# Altium footprint library TL431_SOT23-3.PcbLib: 4 footprints
Each footprint in its own frame and in the unit in brackets; x right, y up, seen from the top. Pads: shape width x height; smd on the part's side, far side on the other; paste and mask are expansions set on the pad; w line width, h text height; cw(c..) or ccw(c..) is an arc to the next point about the centre after c.
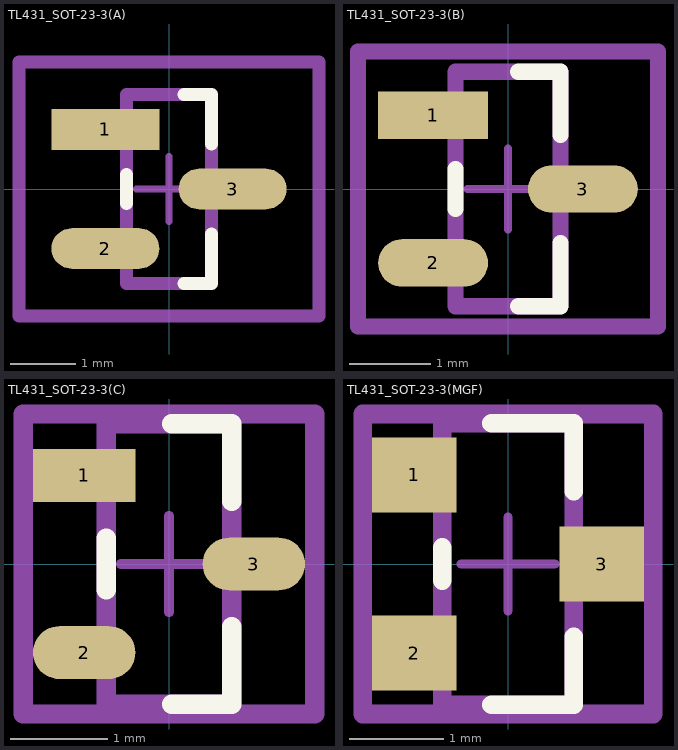
[diagram p0: the footprints below, top view; thin cyan lines are the x and y axes]

## TL431_SOT-23-3(A) [mm]
pads (3):
  rect 1.659x0.627 smd paste+0 mask+0: 1(-0.977,0.915)
  rrect100% 1.659x0.627 smd paste+0 mask+0: 2(-0.977,-0.915) 3(0.977,0)
Top Overlay:
  lines w0.2: -0.65,-0.227 -0.65,0.227 ; 0.228,-1.45 0.65,-1.45 0.65,-0.688 ; 0.228,1.45 0.65,1.45 0.65,0.688
Top 3D Body:
  lines w0.2: -0.65,-1.45 -0.65,1.45 0.65,1.45 0.65,-1.45 -0.65,-1.45
Top Assembly:
  lines w0.2: -2.306,-1.95 -2.306,1.95 2.306,1.95 2.306,-1.95 -2.306,-1.95
  text ".Designator" at 0,-0.001 h1
Top Component Center:
  lines w0.1: -0.5,0 0.5,0 ; 0,-0.5 0,0.5
Top Courtyard:
  lines w0.2: -2.306,-1.95 -2.306,1.95 2.306,1.95 2.306,-1.95 -2.306,-1.95
3D body "IC_DIODES_INC_TL431ASA-7_eec.STEP": height 0.25, standoff 0, extent -2.306,-1.95 2.306,1.95

## TL431_SOT-23-3(B) [mm]
pads (3):
  rect 1.359x0.587 smd paste+0 mask+0: 1(-0.927,0.915)
  rrect100% 1.359x0.587 smd paste+0 mask+0: 2(-0.927,-0.915) 3(0.927,0)
Top Overlay:
  lines w0.2: -0.65,-0.247 -0.65,0.247 ; 0.128,-1.45 0.65,-1.45 0.65,-0.668 ; 0.128,1.45 0.65,1.45 0.65,0.668
Top 3D Body:
  lines w0.2: -0.65,-1.45 0.65,-1.45 0.65,1.45 -0.65,1.45 -0.65,-1.45
Top Assembly:
  lines w0.2: -1.856,-1.7 1.856,-1.7 1.856,1.7 -1.856,1.7 -1.856,-1.7
  text ".Designator" at 0,-0.001 h1
Top Component Center:
  lines w0.1: -0.5,0 0.5,0 ; 0,-0.5 0,0.5
Top Courtyard:
  lines w0.2: -1.856,-1.7 1.856,-1.7 1.856,1.7 -1.856,1.7 -1.856,-1.7
3D body "IC_DIODES_INC_TL431ASA-7_eec.STEP": height 0.25, standoff 0, extent -1.856,-1.7 1.856,1.7

## TL431_SOT-23-3(C) [mm]
pads (3):
  rect 1.059x0.547 smd paste+0 mask+0: 1(-0.877,0.915)
  rrect100% 1.059x0.547 smd paste+0 mask+0: 2(-0.877,-0.915) 3(0.877,0)
Top Overlay:
  lines w0.2: -0.65,-0.267 -0.65,0.267 ; 0.028,-1.45 0.65,-1.45 0.65,-0.648 ; 0.028,1.45 0.65,1.45 0.65,0.648
Top 3D Body:
  lines w0.2: -0.65,-1.45 -0.65,1.45 0.65,1.45 0.65,-1.45 -0.65,-1.45
Top Assembly:
  lines w0.2: -1.506,-1.55 -1.506,1.55 1.506,1.55 1.506,-1.55 -1.506,-1.55
  text ".Designator" at 0,-0.001 h1
Top Component Center:
  lines w0.1: -0.5,0 0.5,0 ; 0,-0.5 0,0.5
Top Courtyard:
  lines w0.2: -1.506,-1.55 -1.506,1.55 1.506,1.55 1.506,-1.55 -1.506,-1.55
3D body "IC_DIODES_INC_TL431ASA-7_eec.STEP": height 0.25, standoff 0, extent -1.506,-1.55 1.506,1.55

## TL431_SOT-23-3(MGF) [mm]
pads (3):
  rect 0.9x0.8 smd paste+0 mask+0: 1(-1,0.95) 2(-1,-0.95) 3(1,0)
Top Overlay:
  lines w0.2: -0.7,-0.175 -0.7,0.175 ; -0.175,-1.5 0.7,-1.5 0.7,-0.775 ; -0.175,1.5 0.7,1.5 0.7,0.775
Top 3D Body:
  lines w0.2: -0.7,-1.5 0.7,-1.5 0.7,1.5 -0.7,1.5 -0.7,-1.5
Top Assembly:
  lines w0.2: -1.55,-1.6 1.55,-1.6 1.55,1.6 -1.55,1.6 -1.55,-1.6
  text ".Designator" at 0,-0.001 h1
Top Component Center:
  lines w0.1: -0.5,0 0.5,0 ; 0,-0.5 0,0.5
Top Courtyard:
  lines w0.2: -1.55,-1.6 1.55,-1.6 1.55,1.6 -1.55,1.6 -1.55,-1.6
3D body "IC_DIODES_INC_TL431ASA-7_eec.STEP": height 0.25, standoff 0, extent -1.55,-1.6 1.55,1.6